# Altium footprint library PcbLib1.PcbLib: 38 footprints (part 3 of 3)
Each footprint in its own frame and in the unit in brackets; x right, y up, seen from the top. Pads: shape width x height; smd on the part's side, far side on the other; paste and mask are expansions set on the pad; w line width, h text height; cw(c..) or ccw(c..) is an arc to the next point about the centre after c.
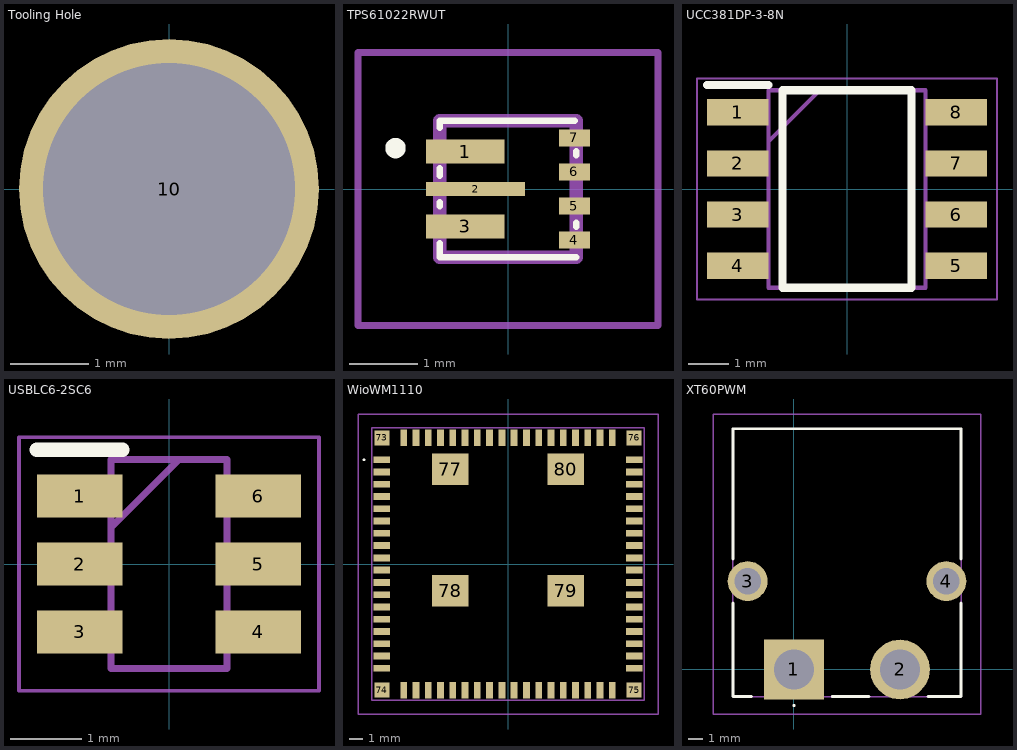
[diagram p2: the footprints below, top view; thin cyan lines are the x and y axes]

## Tooling Hole [mm]
pads (1):
  round 3.81 hole 3.2: 10(0,0)

## TPS61022RWUT [mm] "3.7V -> 5V Boost"
pads (7):
  rect 1.15x0.35 smd: 1(-0.625,0.55) 3(-0.625,-0.55)
  rect 1.45x0.2 smd: 2(-0.475,0)
  rect 0.45x0.25 smd: 4(0.975,-0.75) 5(0.975,-0.25) 6(0.975,0.25) 7(0.975,0.75)
Top Overlay:
  lines w0.1: -1,-1 -1,-0.8 -1,-1 ; -1,-1 1,-1 -1,-1 ; -1,1 0.975,1 -1,1 ; -1,1 -1,0.9 -1,1 ; -1,-0.25 -1,-0.2 -1,-0.25 ; -1,0.2 -1,0.3 -1,0.2 ; 1,-0.55 1,-0.5 1,-0.55 ; 1,0.5 1,0.55 1,0.5
  lines w0.2: -1.7,0.6 ccw(c-1.65,0.6) -1.6,0.6 ; -1.7,0.6 cw(c-1.65,0.6) -1.6,0.6 ; -1.7,0.6 ccw(c-1.65,0.6) -1.6,0.6
Mechanical 15:
  lines w0.2: -1,-1 1,-1 1,1 -1,1 -1,-1
Mechanical 20:
  lines w0.1: -2.2,-2 2.2,-2 2.2,2 -2.2,2 -2.2,-2
3D body "TPS61022RWUT.stp": height 1, standoff 0, extent -1,-1 1,1

## UCC381DP-3-8N [mm]
pads (8):
  rect 1.528x0.65 smd: 1(-2.711,1.905) 2(-2.711,0.635) 3(-2.711,-0.635) 4(-2.711,-1.905) 5(2.711,-1.905) 6(2.711,-0.635) 7(2.711,0.635) 8(2.711,1.905)
Top Overlay:
  lines w0.2: -3.475,2.58 -1.948,2.58 ; -1.598,-2.452 -1.598,2.452 1.598,2.452 1.598,-2.452 -1.598,-2.452
Mechanical 15:
  lines w0.1: -1.948,1.182 -0.678,2.452 ; -1.948,-2.452 -1.948,2.452 1.948,2.452 1.948,-2.452 -1.948,-2.452
Mechanical 20:
  lines w0.05: -3.725,-2.75 -3.725,2.75 3.725,2.75 3.725,-2.75 -3.725,-2.75
3D body "UCC381DP-3.stp": height 1.63, standoff 0, extent -3.011,-2.451 3.011,2.451

## USBLC6-2SC6 [mm]
pads (6):
  rect 1.2x0.6 smd: 1(-1.25,0.95) 2(-1.25,0) 3(-1.25,-0.95) 4(1.25,-0.95) 5(1.25,0) 6(1.25,0.95)
Top Overlay:
  lines w0.2: -1.85,1.6 -0.65,1.6
Mechanical 15:
  lines w0.1: -0.812,0.512 0.138,1.462 ; -0.812,-1.462 0.812,-1.462 0.812,1.462 -0.812,1.462 -0.812,-1.462
Mechanical 20:
  lines w0.05: -2.1,-1.775 2.1,-1.775 2.1,1.775 -2.1,1.775 -2.1,-1.775
3D body "USBLC6-2SC6.stp": height 1.45, standoff 0, extent -1.4,-1.462 1.4,1.462

## WioWM1110 [mm]
pads (80):
  rect 1.2x0.5 smd: 1(-9.25,7.65) 2(-9.25,6.75) 3(-9.25,5.85) 4(-9.25,4.95) 5(-9.25,4.05) 6(-9.25,3.15) 7(-9.25,2.25) 8(-9.25,1.35) 9(-9.25,0.45) 10(-9.25,-0.45) 11(-9.25,-1.35) 12(-9.25,-2.25) 13(-9.25,-3.15) 14(-9.25,-4.05) 15(-9.25,-4.95) 16(-9.25,-5.85) 17(-9.25,-6.75) 18(-9.25,-7.65) 37(9.25,-7.65) 38(9.25,-6.75) 39(9.25,-5.85) 40(9.25,-4.95) 41(9.25,-4.05) 42(9.25,-3.15) 43(9.25,-2.25) 44(9.25,-1.35) 45(9.25,-0.45) 46(9.25,0.45) 47(9.25,1.35) 48(9.25,2.25) 49(9.25,3.15) 50(9.25,4.05) 51(9.25,4.95) 52(9.25,5.85) 53(9.25,6.75) 54(9.25,7.65)
  rect 0.5x1.2 smd: 19(-7.65,-9.25) 20(-6.75,-9.25) 21(-5.85,-9.25) 22(-4.95,-9.25) 23(-4.05,-9.25) 24(-3.15,-9.25) 25(-2.25,-9.25) 26(-1.35,-9.25) 27(-0.45,-9.25) 28(0.45,-9.25) 29(1.35,-9.25) 30(2.25,-9.25) 31(3.15,-9.25) 32(4.05,-9.25) 33(4.95,-9.25) 34(5.85,-9.25) 35(6.75,-9.25) 36(7.65,-9.25) 55(7.65,9.25) 56(6.75,9.25) 57(5.85,9.25) 58(4.95,9.25) 59(4.05,9.25) 60(3.15,9.25) 61(2.25,9.25) 62(1.35,9.25) 63(0.45,9.25) 64(-0.45,9.25) 65(-1.35,9.25) 66(-2.25,9.25) 67(-3.15,9.25) 68(-4.05,9.25) 69(-4.95,9.25) 70(-5.85,9.25) 71(-6.75,9.25) 72(-7.65,9.25)
  rect 1.1x1.1 smd: 73(-9.25,9.25) 74(-9.25,-9.25) 75(9.25,-9.25) 76(9.25,9.25)
  rect 2.7x2.3 smd: 77(-4.235,6.94) 78(-4.235,-1.95) 79(4.235,-1.95) 80(4.235,6.94)
Top Overlay:
  lines w0.1: -10.6,7.65 cw(c-10.55,7.65) -10.5,7.65 cw(c-10.55,7.65) -10.6,7.65
Mechanical 15:
  lines w0.1: -10,-10 -10,10 10,10 10,-10 -10,-10
Mechanical 20:
  lines w0.1: -11,-11 -11,11 11,11 11,-11 -11,-11
3D body "Wio-WM1110.stp": height 2.4, standoff 0, extent -10,-10 10,10

## XT60PWM [mm]
pads (4):
  rect 4.05x4.05 hole 2.7: 1(0,0)
  round 4.05 hole 2.7: 2(7.2,0)
  round 2.7 hole 1.8: 3(-3.15,6) 4(10.35,6)
Top Overlay:
  lines w0.1: 0,-2.5 ccw(c0,-2.45) 0,-2.4 ccw(c0,-2.45) 0,-2.5
  lines w0.2: -4.15,4.5 -4.15,-1.85 -2.9,-1.85 ; -4.15,7.5 -4.15,16.35 11.35,16.35 11.35,7.5 ; 2.6,-1.85 5.1,-1.85 ; 9.1,-1.85 11.35,-1.85 11.35,4.5
Mechanical 15:
  lines w0.1: -4.15,-1.85 11.35,-1.85 11.35,16.35 -4.15,16.35 -4.15,-1.85
Mechanical 20:
  lines w0.1: -5.5,-3.025 12.7,-3.025 12.7,17.35 -5.5,17.35 -5.5,-3.025
3D body "XT60PW-M.stp": height 8.15, standoff -3.3, extent -4.394,-1.787 11.506,16.413